# Altium footprint library Пъезоизлучатели.PcbLib: 8 footprints
Each footprint in its own frame and in the unit in brackets; x right, y up, seen from the top. Pads: shape width x height; smd on the part's side, far side on the other; paste and mask are expansions set on the pad; w line width, h text height; cw(c..) or ccw(c..) is an arc to the next point about the centre after c.
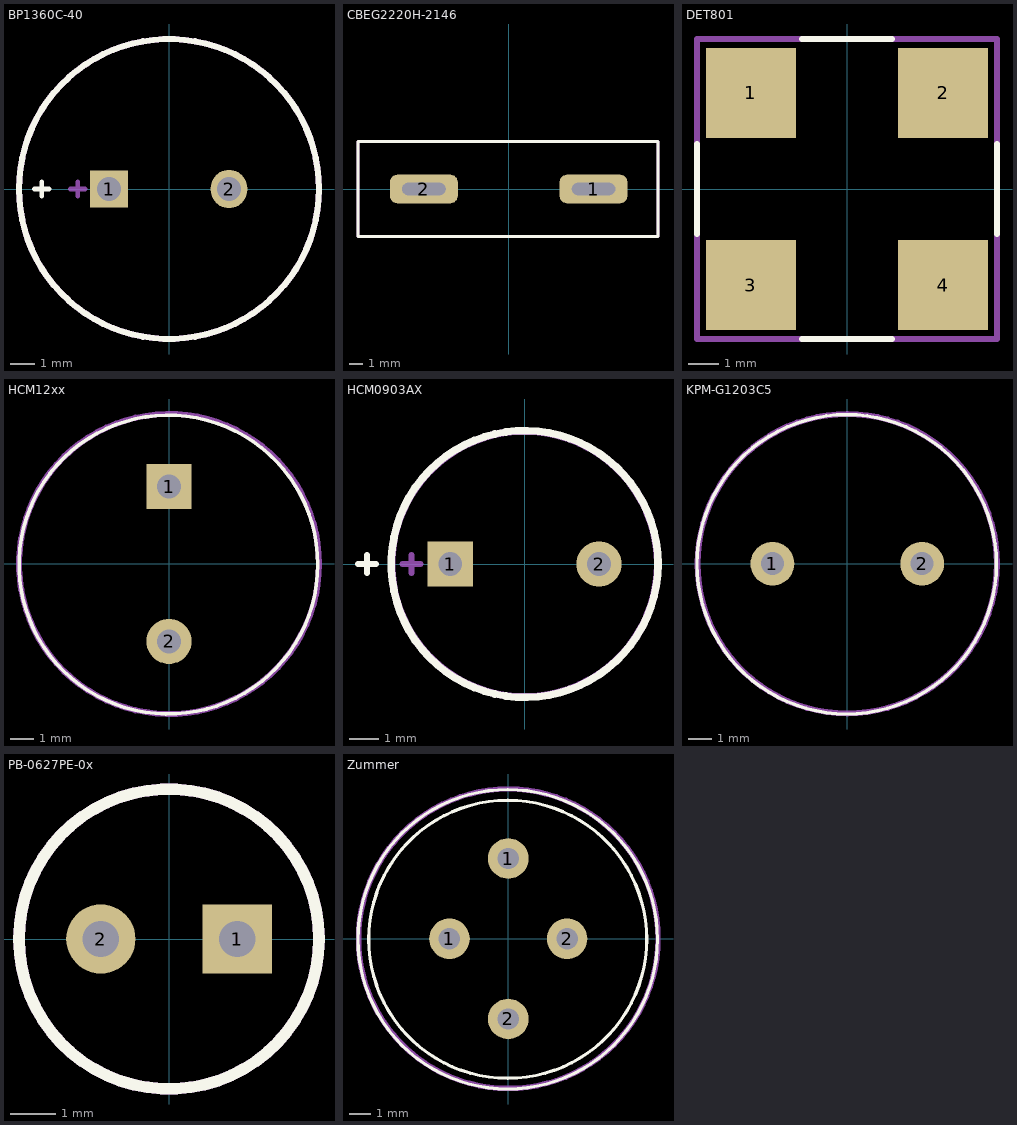
[diagram p0: the footprints below, top view; thin cyan lines are the x and y axes]

## BP1360C-40 [mm]
height 1.5
pads (2):
  rect 1.6x1.524 hole 1: 1(-2.5,0)
  oval 1.524x1.6 hole 1: 2(2.5,0)
Top Overlay:
  circle w0.254: c0,0 r6.25
  lines w0.2: -5.6,0 -5,0 ; -5.3,-0.3 -5.3,0.3
TopAssy:
  circle w0.254: c0,0 r6.25
  lines w0.2: -4.1,0 -3.5,0 ; -3.8,-0.3 -3.8,0.3
  text ".Designator" at -0.1,-0.1 h1.52
3D body "BP1360C-40.stp": height 6.25, standoff -2, extent -6.247,-6.15 6.247,6.35

## CBEG2220H-2146 [mm]
pads (2):
  rrect50% 5x2.1 hole 0.9 slot 3.2 at 0 deg: 1(6.25,0) 2(-6.25,0)
Top Overlay:
  lines w0.254: -11.1,-3.5 11,-3.5 11,3.5 -11.1,3.5 -11.1,-3.5
TopAssy:
  lines w0.2: -11.1,-3.5 11,-3.5 11,3.5 -11.1,3.5 -11.1,-3.5
  text ".Designator" at -3.4,-1.6 h1.52
3D body "Излучатель звука CBEG2220H-2146 DAE YOUNG.stp": height 28.04, standoff -2.46, extent -11,-3.4 11,3.6

## DET801 [mm]
pads (4):
  rect 3x3 smd: 1(-3.2,3.2) 2(3.2,3.2) 3(-3.2,-3.2) 4(3.2,-3.2)
Top Overlay:
  lines w0.2: -5,-1.5 -5,1.5 ; -1.5,-5 1.5,-5 ; -1.5,5 1.5,5 ; 5,-1.5 5,1.5
TopAssy:
  lines w0.2: -5,-5 -5,5 5,5 5,-5 -5,-5
  text ".Designator" at -2.7,-0.4 h1.52
3D body "DET 801.stp": height 4.2, standoff 0, extent -4.25,-4.25 4.25,4.25

## HCM12xx [mm]
height 1.1
pads (2):
  rect 1.9x1.9 hole 1: 1(0,3.25)
  round 1.9 hole 1: 2(0,-3.25)
Top Overlay:
  circle w0.15: c-0.025,-0.025 r6.275
TopAssy:
  circle w0.254: c0,0 r6.3
  text ".Designator" at -1.5,-0.6 h1.52
3D body "HCM1203A.stp": height 9, standoff -5.5, extent -6,-5.988 5.953,5.988

## HCM0903AX [mm]
height 1.5
pads (2):
  rect 1.524x1.524 hole 0.8: 1(-2.5,0)
  round 1.524 hole 0.8: 2(2.5,0)
Top Overlay:
  circle w0.254: c0,0 r4.482
  lines w0.2: -5.6,0 -5,0 ; -5.3,-0.3 -5.3,0.3
TopAssy:
  circle w0.254: c0,0 r4.469
  lines w0.2: -4.1,0 -3.5,0 ; -3.8,-0.3 -3.8,0.3
  text ".Designator" at -0.1,-0.1 h1.52
3D body "HCM0903AX.step": height 5.5, standoff -2, extent -4.5,-4.5 4.5,4.5

## KPM-G1203C5 [mm]
height 1.1
pads (2):
  round 1.9 hole 1: 1(-3.25,0) 2(3.25,0)
Top Overlay:
  circle w0.15: c-0.025,-0.025 r6.5
TopAssy:
  circle w0.254: c0,0 r6.5
  text ".Designator" at -1.8,-0.8 h1.52
3D body "Звукоизлучатель KPM-G1203C5.stp": height 6.5, standoff -3, extent -6,-6 6,6

## PB-0627PE-0x [mm]
pads (2):
  rect 1.524x1.524 hole 0.8: 1(1.5,0)
  round 1.524 hole 0.8: 2(-1.5,0)
Top Overlay:
  circle w0.254: c0,0 r3.3
TopAssy:
  circle w0.254: c0,0 r3.3
3D body "Звукоизлучатель PB-0627PE-01.stp": height 3.6, standoff -3, extent -3.3,-3.3 3.3,3.3

## Zummer [mm]
height 1.1
pads (4):
  round 1.9 hole 1: 1(-2.75,0) 1(0,3.75) 2(0,-3.75) 2(2.75,0)
Top Overlay:
  circle w0.15: c-0.025,-0.025 r6.5
  circle w0.15: c-0.025,-0.025 r7
TopAssy:
  circle w0.254: c0,0 r7
  text ".Designator" at -1.5,-0.6 h1.52